# Altium footprint library SOP65P640X120-8N.PcbLib: 1 footprints
Each footprint in its own frame and in the unit in brackets; x right, y up, seen from the top. Pads: shape width x height; smd on the part's side, far side on the other; paste and mask are expansions set on the pad; w line width, h text height; cw(c..) or ccw(c..) is an arc to the next point about the centre after c.
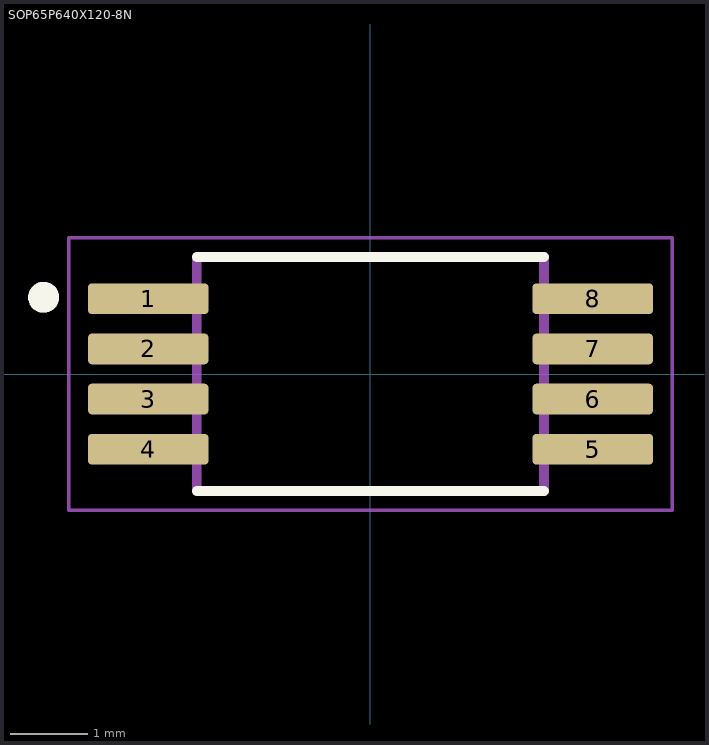
[diagram p0: the footprint, top view; thin cyan lines are the x and y axes]

## SOP65P640X120-8N [mm]
height 1.2
pads (8):
  rrect25% 1.56x0.4 smd: 1(-2.88,0.975) 2(-2.88,0.325) 3(-2.88,-0.325) 4(-2.88,-0.975) 5(2.88,-0.975) 6(2.88,-0.325) 7(2.88,0.325) 8(2.88,0.975)
Top Overlay:
  circle w0.2: c-4.236,0.994 r0.1
  lines w0.127: -2.25,-1.515 2.25,-1.515 ; -2.25,1.515 2.25,1.515
Assembly Top:
  circle w0.2: c-4.236,0.994 r0.1
  lines w0.127: -2.25,-1.515 -2.25,1.515 2.25,1.515 2.25,-1.515 -2.25,-1.515
Courtyard Top:
  lines w0.05: -3.91,-1.765 -3.91,1.765 3.91,1.765 3.91,-1.765 -3.91,-1.765
3D body "step_temp.STEP": height 1.2, standoff 0, extent -3.2,-1.465 3.2,1.465